# Altium integrated library Fuse VDR.IntLib: 7 symbols
Pins are listed as number, name and electrical type; pins without a type are passive.

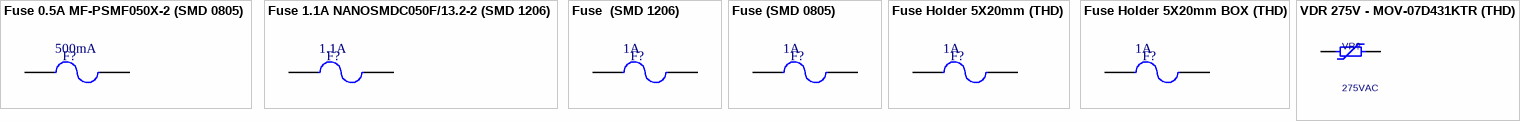
[diagram p0: symbols Fuse 0.5A MF-PSMF050X-2 (SMD 0805) to VDR 275V - MOV-07D431KTR (THD)]

## Fuse 0.5A MF-PSMF050X-2 (SMD 0805)
designator F?, comment value 500mA  (hidden comment: Fuse)
Polymeric PTC Resettable Fuse 6V 500mA Ih Surface Mount 0805 (2012 Metric), Concave; PartNumber: MF-PSMF050X-2
footprint FUSE_0805
pins: 1, 2

## Fuse 1.1A NANOSMDC050F/13.2-2 (SMD 1206)
designator F?, comment value 1.1A  (hidden comment: Fuse)
Polymeric PTC Resettable Fuse 13.2V 500mA Ih Surface Mount 1206 (3216 Metric), Concave; PartNumber: NANOSMDC050F/13.2-2
footprint FUSE_1206
pins: 1, 2

## Fuse  (SMD 1206)
designator F?, comment value 1A  (hidden comment: Fuse)
SMD FUSE; PartNumber: FUSE 1206
footprint FUSE_1206
pins: 1, 2

## Fuse (SMD 0805)
designator F?, comment value 1A  (hidden comment: Fuse)
SMD fuse; PartNumber: FUSE 0805
footprint FUSE_0805
pins: 1, 2

## Fuse Holder 5X20mm (THD)
designator F?, comment value 1A  (hidden comment: Fuse)
Fuse Clip 15A 250V 1 Circuit Cartridge Through Hole; PartNumber: 01020071Z  X 2
footprint FUSE_HOLDER2
pins: 1, 2

## Fuse Holder 5X20mm BOX (THD)
designator F?, comment value 1A  (hidden comment: Fuse)
Fuse Holder 5A 250V 1 Circuit Cartridge Through Hole; PartNumber: 4527 + 4527C ( Keystone Electronics)
footprint FUSE_HOLDER1
pins: 1, 2

## VDR 275V - MOV-07D431KTR (THD)
designator VR?, comment 275VAC
Maximum AC Volts 275V / Maximum DC Volts 350V / Varistor Voltage (Min) 387V / Varistor Voltage (Typ) 430V / Varistor Voltage (Max) 473V / Current - Surge 1.2kA; PartNumber: MOV-07D431KTR
footprint VDR 9X5.6mm P5.0 (VDR, VARISTOR, 9X5.6, pitch: 5.0mm, 275VAC(RMS))
pins: 1, 2